# EAGLE library part ADP1755ACPZ-R7 (library My_Library)
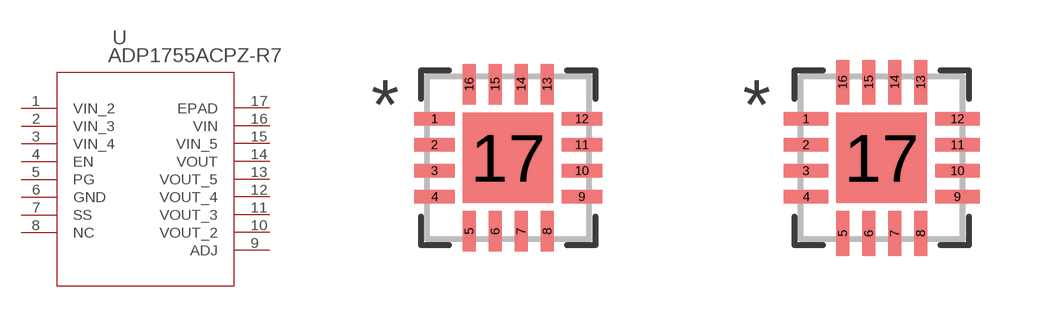
[diagram p10: symbol with the pads of CP-16-23_ADI; footprints CP-16-23_ADI, CP-16-23_ADI-M]

Designator prefix U

## ADP1755ACPZ-R7 (COPYRIGHT: Copyright (C) 2024 Ultra Librarian. All rights reserved.; MANUFACTURER_PART_NUMBER: ADP1755ACPZ-R7; MFR_NAME: Analog Devices Inc)  [CP-16-23_ADI]
1  VIN_2  pwr
2  VIN_3  pwr
3  VIN_4  pwr
4  EN  in
5  PG  out
6  GND  pas
7  SS  pas
8  NC  nc
9  ADJ  pas
10  VOUT_2  pwr
11  VOUT_3  pwr
12  VOUT_4  pwr
13  VOUT_5  pwr
14  VOUT  pwr
15  VIN_5  pwr
16  VIN  pwr
17  EPAD  pas

## ADP1755ACPZ-R7CP-16-23_ADI-M (COPYRIGHT: Copyright (C) 2024 Ultra Librarian. All rights reserved.; MANUFACTURER_PART_NUMBER: ADP1755ACPZ-R7; MFR_NAME: Analog Devices Inc)  [CP-16-23_ADI-M]
Pads as for CP-16-23_ADI

## ADP1755ACPZ-R7CP-16-23_ADI-L (COPYRIGHT: Copyright (C) 2024 Ultra Librarian. All rights reserved.; MANUFACTURER_PART_NUMBER: ADP1755ACPZ-R7; MFR_NAME: Analog Devices Inc)  [CP-16-23_ADI-L]
Pads as for CP-16-23_ADI

## Footprint CP-16-23_ADI (pad centres in mm)
smd 1.016 x 0.33: 1 -1.841,0.975; 2 -1.841,0.325; 3 -1.841,-0.325; 4 -1.841,-0.975; 9 1.841,-0.975; 10 1.841,-0.325; 11 1.841,0.325; 12 1.841,0.975
smd 0.33 x 1.016: 5 -0.975,-1.841; 6 -0.325,-1.841; 7 0.325,-1.841; 8 0.975,-1.841; 13 0.975,1.841; 14 0.325,1.841; 15 -0.325,1.841; 16 -0.975,1.841
smd 2.261 x 2.261: 17 0,0

## Footprint CP-16-23_ADI-M (pad centres in mm)
smd 1.118 x 0.33: 1 -1.892,0.975; 2 -1.892,0.325; 3 -1.892,-0.325; 4 -1.892,-0.975; 9 1.892,-0.975; 10 1.892,-0.325; 11 1.892,0.325; 12 1.892,0.975
smd 0.33 x 1.118: 5 -0.975,-1.892; 6 -0.325,-1.892; 7 0.325,-1.892; 8 0.975,-1.892; 13 0.975,1.892; 14 0.325,1.892; 15 -0.325,1.892; 16 -0.975,1.892
smd 2.261 x 2.261: 17 0,0

## Footprint CP-16-23_ADI-L (pad centres in mm)
smd 0.914 x 0.33: 1 -1.791,0.975; 2 -1.791,0.325; 3 -1.791,-0.325; 4 -1.791,-0.975; 9 1.791,-0.975; 10 1.791,-0.325; 11 1.791,0.325; 12 1.791,0.975
smd 0.33 x 0.914: 5 -0.975,-1.791; 6 -0.325,-1.791; 7 0.325,-1.791; 8 0.975,-1.791; 13 0.975,1.791; 14 0.325,1.791; 15 -0.325,1.791; 16 -0.975,1.791
smd 2.261 x 2.261: 17 0,0